# Altium schematic symbol library HAB_Assorted.SchLib: 1 symbol
Pins are listed as number, name and electrical type; pins without a type are passive.

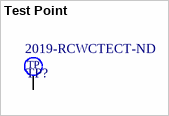
[diagram p0: symbol Test Point]

## Test Point
designator TP?  Supplier Part Number 1: 2019-RCWCTECT-ND  (hidden comment: *)
Supplier 1: Digi-Key
footprint 2.5mm TestPoint
pins: 1
text: TP